# Altium schematic symbol library HW_SSB_LITE_R1.SCHLIB: 59 symbols (part 1 of 2)
Pins are listed as number, name and electrical type; pins without a type are passive.

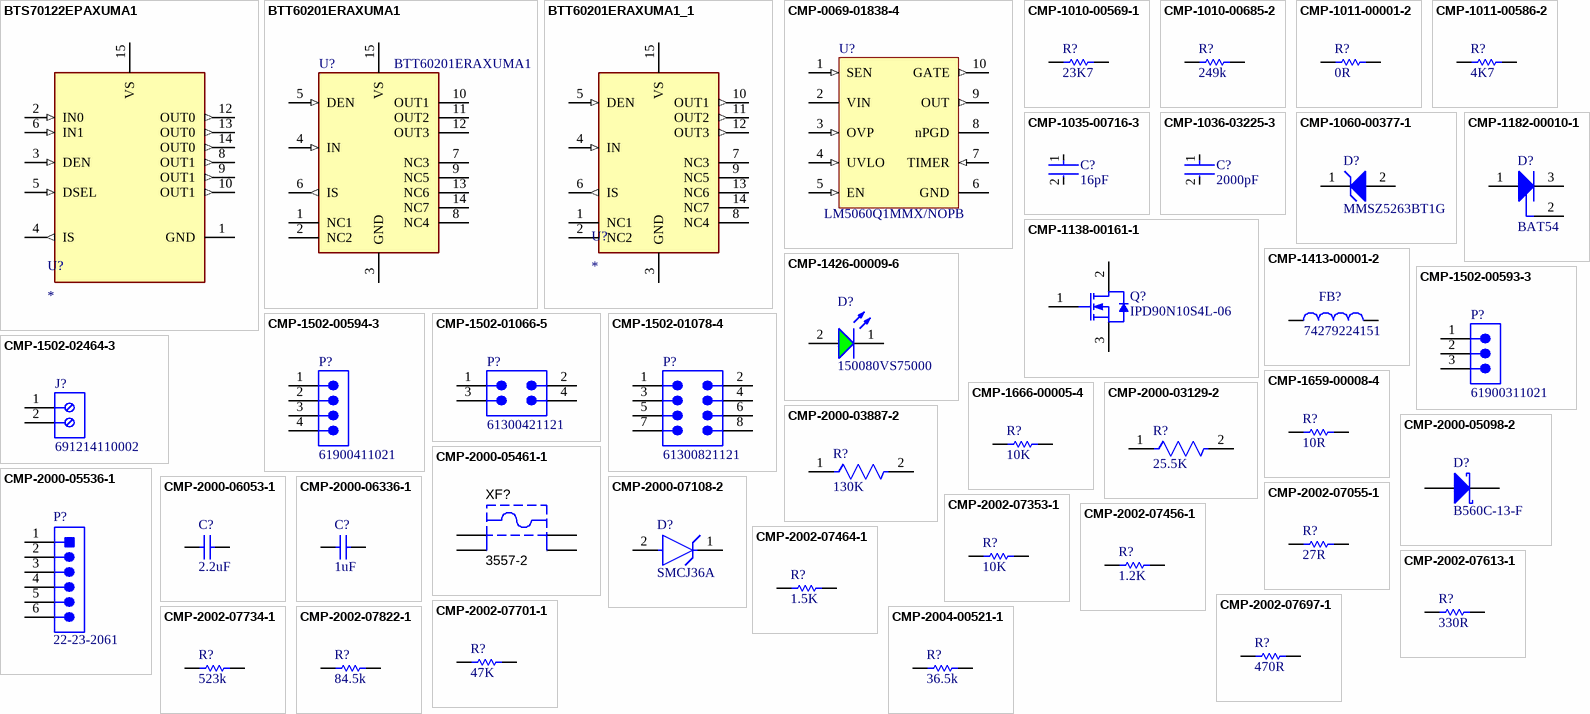
[diagram p0: symbols BTS70122EPAXUMA1 to CMP-2004-00521-1]

## BTS70122EPAXUMA1
designator U?
BTS70 Series 28 V 6 A PROFET+2 Smart High-Side Power Switch - PG-TSDSO-14; Manufacturer: Infineon; Manufacturer Part Number: BTS70122EPAXUMA1; Max Junction Temperature (Tj): 150°C; Max Output current: 6A; Max Supply Voltage: 18V; Min Supply Voltage: 6V; Nominal Supply Voltage: 28V; Number of Channels: 2; Number of Circuits: 1; Operating Supply Voltage: 13.5V; Power Dissipation: 2W; Supplier: Farnell; Supplier Part Number: BTS70122EPAXUMA1; RoHS: Compliant; Category: Power Switch ICs - Power Distribution; Stock: 2385; Pricing: 1=2,85, 10=1,86, 50=1,7, 100=1,46, 250=1,37, 500=1,2, 1000=1, 2500=0,98 (EUR); China RoHS: Compliant; Country of Origin: Malaysia; Export Control Classification Number (ECCN) Code: EAR99; Height: 1.15mm; Height - Seated (Max): 1.15mm; Harmonized Tariff Schedule (HTS) Code: 8542.39.00.60; Introduction Date: 2017-08-25; Length: 4.9mm; Lifecycle Status: Production; Max Operating Temperature: 150°C; Min Operating Temperature: -40°C; Number of Outputs: 2; Number of Terminals: 14; Output Current: 6A; Package Quantity: 3000; Packaging: Tape & Reel; Ratings: AEC-Q100; REACH SVHC: Yes; Schedule B: 8542390000; Terminal Pitch: 650µm; Width: 3.9mm; ComponentLink1URL: https://datasheet.octopart.com:443/BTS70122EPAXUMA1-Infineon-datasheet-104474240.pdf?src-supplier=ODG+(Origin+Data+Global); ComponentLink1Description: https://datasheet.octopart.com:443/BTS70122EPAXUMA1-Infineon-datasheet-104474240.pdf?src-supplier=ODG+(Origin+Data+Global); ComponentLink2URL: http://sigma.octopart.com:80/conflict_mineral_statement/Infineon-company-51.pdf?src-supplier=Compliance+Statements; ComponentLink2Description: http://sigma.octopart.com:80/conflict_mineral_statement/Infineon-company-51.pdf?src-supplier=Compliance+Statements
footprint BTS70122EPAXUMA1
pins: 1 GND (power), 2 IN0 (in), 3 DEN (in), 4 IS (out), 5 DSEL (in), 6 IN1 (in), 8 OUT1 (out), 9 OUT1 (out), 10 OUT1 (out), 12 OUT0 (out), 13 OUT0 (out), 14 OUT0 (out), 15 VS (power)

## BTT60201ERAXUMA1
designator U?
Power Switch ICs – Power Distribution; INFINEON; BTT60201ERAXUMA1; 1; 7 A; Max Junction Temperature (Tj): 150°C; Max Output current: 7A; Max Power Dissipation: 1.6W; Max Supply Current: 9mA; Max Supply Voltage: 48V; Min Supply Voltage: 5V; Number of Circuits: 1; Operating Supply Voltage: 8V; Supplier: Farnell; Supplier Part Number: BTT60201ERAXUMA1; Manufacturer: Infineon; Manufacturer Part Number: BTT60201ERAXUMA1; RoHS: Compliant; Category: Power Switch ICs - Power Distribution; Stock: 7297; Pricing: 5=4,52, 50=2,78, 100=2,42, 500=2, 1500=1,67 (EUR); Height: 1.15mm; Height - Seated (Max): 1.15mm; Length: 8.65mm; Lifecycle Status: Production; Max Operating Temperature: 150°C; Min Operating Temperature: -40°C; Number of Outputs: 1; Number of Terminals: 14; Output Current: 7A; Ratings: AEC-Q100; REACH SVHC: Yes; Schedule B: 8542390000, 8542390000|8542390000|8542390000|8542390000|8542390000; Terminal Pitch: 1.27mm; Width: 3.9mm; ComponentLink1URL: https://datasheet.octopart.com:443/BTT60201ERAXUMA1-Infineon-datasheet-180055284.pdf?src-supplier=IHS; ComponentLink1Description: https://datasheet.octopart.com:443/BTT60201ERAXUMA1-Infineon-datasheet-180055284.pdf?src-supplier=IHS; ComponentLink2URL: http://sigma.octopart.com:80/conflict_mineral_statement/Infineon-company-51.pdf?src-supplier=Compliance+Statements; ComponentLink2Description: http://sigma.octopart.com:80/conflict_mineral_statement/Infineon-company-51.pdf?src-supplier=Compliance+Statements
footprint BTT60201ERAXUMA1
pins: 1 NC1, 2 NC2, 3 GND (power), 4 IN (in), 5 DEN (in), 6 IS (out), 7 NC3, 8 NC4, 9 NC5, 10 OUT1, 11 OUT2, 12 OUT3, 13 NC6, 14 NC7, 15 VS (power)

## BTT60201ERAXUMA1_1
designator U?
Power Switch ICs – Power Distribution; INFINEON; BTT60201ERAXUMA1; 1; 7 A; Max Junction Temperature (Tj): 150°C; Max Output current: 7A; Max Power Dissipation: 1.6W; Max Supply Current: 9mA; Max Supply Voltage: 48V; Min Supply Voltage: 5V; Number of Circuits: 1; Operating Supply Voltage: 8V; Supplier: Farnell; Supplier Part Number: BTT60201ERAXUMA1; Manufacturer: Infineon; Manufacturer Part Number: BTT60201ERAXUMA1; RoHS: Compliant; Category: Power Switch ICs - Power Distribution; Stock: 7297; Pricing: 5=4,52, 50=2,78, 100=2,42, 500=2, 1500=1,67 (EUR); Height: 1.15mm; Height - Seated (Max): 1.15mm; Length: 8.65mm; Lifecycle Status: Production; Max Operating Temperature: 150°C; Min Operating Temperature: -40°C; Number of Outputs: 1; Number of Terminals: 14; Output Current: 7A; Ratings: AEC-Q100; REACH SVHC: Yes; Schedule B: 8542390000, 8542390000|8542390000|8542390000|8542390000|8542390000; Terminal Pitch: 1.27mm; Width: 3.9mm; ComponentLink1URL: https://datasheet.octopart.com:443/BTT60201ERAXUMA1-Infineon-datasheet-180055284.pdf?src-supplier=IHS; ComponentLink1Description: https://datasheet.octopart.com:443/BTT60201ERAXUMA1-Infineon-datasheet-180055284.pdf?src-supplier=IHS; ComponentLink2URL: http://sigma.octopart.com:80/conflict_mineral_statement/Infineon-company-51.pdf?src-supplier=Compliance+Statements; ComponentLink2Description: http://sigma.octopart.com:80/conflict_mineral_statement/Infineon-company-51.pdf?src-supplier=Compliance+Statements
footprint BTT60201ERAXUMA1
pins: 1 NC1, 2 NC2, 3 GND (power), 4 IN (in), 5 DEN (in), 6 IS (out), 7 NC3, 8 NC4, 9 NC5, 10 OUT1 (out), 11 OUT2 (out), 12 OUT3 (out), 13 NC6, 14 NC7, 15 VS (power)

## CMP-0069-01838-4
designator U?, comment LM5060Q1MMX/NOPB
High-Side Protection Controller with Low Quiescent Current, 10-pin MSOP, Pb-Free; Manufacturer: Texas Instruments; PackageTopMarking: ZXTT*SZAB; High-Reliability: Y; CompType: Switcher; PackageDescription: Mini-SO, Molded, .118 x .118 x .034in Body, 10 Lead, .0197in Pitch; PowerWise: Y; PinCount: 10; Code_JEDEC: MO-187-BA; ComponentLink1URL: http://www.ti.com/general/docs/lit/getliterature.tsp?genericPartNumber=LM5060-Q1&fileType=pdf; ComponentLink1Description: Datasheet URL; PackageReference: DGS0010A; RoHS: Y; PartNumber: LM5060Q1MMX/NOPB
footprint DGS0010A_M (SOP, 10-Leads, Body 3.1x3.1mm, Pitch 0.5mm, IPC Low Density)
footprint DGS0010A_N (SOP, 10-Leads, Body 3.1x3.1mm, Pitch 0.5mm, IPC Medium Density)
footprint DGS0010A_L (SOP, 10-Leads, Body 3.1x3.1mm, Pitch 0.5mm, IPC High Density)
pins: 1 SEN (in), 2 VIN (power), 3 OVP (in), 4 UVLO (in), 5 EN (in), 6 GND (power), 7 TIMER (in), 8 nPGD (oc), 9 OUT (out), 10 GATE (out)

## CMP-1010-00569-1
designator R?, comment 23K7
23K7 0.05W 1% 0201 (0603 Metric)  SMD; Case-Metric: 0603; Case-EIA: 0201; Value: 23700.00 Ohm; Power: 0.05 W; Tolerance: 1 %; Technology: SMT
footprint RESC0201(0603)_M (Chip Resistor, Body 0.6x0.3mm, IPC Low Density)
footprint RESC0201(0603)_N (Chip Resistor, Body 0.6x0.3mm, IPC Medium Density)
footprint RESC0201(0603)_L (Chip Resistor, Body 0.6x0.3mm, IPC High Density)
pins: 1, 2
1 alternate drawing of the same symbol

## CMP-1010-00685-2
designator R?, comment 249k
Res Thick Film 0603 2.2K Ohm 1% 0.1W(1/10W) ±100ppm/C SMD AutomoTEXASve T/R; Part Number: CRCW0201249KFKED; Manufacturer: Vishay Dale
footprint RESC0603X28X15LL05T05 (Chip Resistor, 2-Leads, Body 0.60x0.30mm, IPC High Density)
footprint RESC0603X28X15ML05T05 (Chip Resistor, 2-Leads, Body 0.60x0.30mm, IPC Low Density)
footprint RESC0603X28X15NL05T05 (Chip Resistor, 2-Leads, Body 0.60x0.30mm, IPC Medium Density)
pins: 1, 2
1 alternate drawing of the same symbol

## CMP-1011-00001-2
designator R?, comment 0R
Manufacturer: Yageo / Phycomp; Part Number: RC0402JR-070RL
footprint RESC1005X40X25NL05T10 (Chip Resistor, 2-Leads, Body 1.00x0.50mm, IPC Medium Density)
footprint RESC1005X40X25ML05T10 (Chip Resistor, 2-Leads, Body 1.00x0.50mm, IPC Low Density)
footprint RESC1005X40X25LL05T10 (Chip Resistor, 2-Leads, Body 1.00x0.50mm, IPC High Density)
pins: 1, 2
1 alternate drawing of the same symbol

## CMP-1011-00586-2
designator R?, comment 4K7
Manufacturer: Yageo / Phycomp; Part Number: RC0402FR-074K7L
footprint RESC1005X40X25NL05T10 (Chip Resistor, 2-Leads, Body 1.00x0.50mm, IPC Medium Density)
footprint RESC1005X40X25LL05T10 (Chip Resistor, 2-Leads, Body 1.00x0.50mm, IPC High Density)
footprint RESC1005X40X25ML05T10 (Chip Resistor, 2-Leads, Body 1.00x0.50mm, IPC Low Density)
pins: 1, 2
1 alternate drawing of the same symbol

## CMP-1035-00716-3
designator C?, comment 16pF
CAP CER 16PF 50V 5% NP0 0603; Manufacturer Part Number: C0603C160J5GACTU; Manufacturer: KEMET; Automotive Grade: Grade 1; Material: Ceramic; Temperature Coefficient: 30ppm/°C; Tolerance: 0.05; Temperature Characteristic: C0G; Octopart: https://octopart.com/c0603c160j5gactu-kemet-9143816; ComponentLink2URL: https://api.kemet.com/component-edge/download/datasheet/C0603C100J5GACAUTO.pdf; Category: Cap; Mouser Description: Multilayer Ceramic Capacitors MLCC - SMD/SMT 50volts 16pF C0G 5%; Device Class L1: Passive Components; Capacitance: 16 pF; Voltage Rating: 50 V; Temperature Range Low: -55°C; Automotive: Yes; Device Class L3: Ceramic Capacitors; Package: C0603C-CF; Temperature Range High: +125°C; Digikey Description: CAP CER 16PF 50V 5% NP0 0603; Value: 16 pF; Lead Free: Yes; Height: 0.87mm; Device Class L2: Capacitors; Temperature: -55°C to +125°C; ComponentLink2Description: Datasheet; RoHS: TRUE
footprint FP-C0603C-CF-MFG
footprint FP-C0603C-CF-IPC_C
footprint FP-C0603C-CF-IPC_B
footprint FP-C0603C-CF-IPC_A
pins: 1, 2

## CMP-1036-03225-3
designator C?, comment 2000pF
CAP CER 2000PF 25V 5% NP0 0805; Manufacturer Part Number: C0805C202J3GACTU; Manufacturer: KEMET; Value: 2,000 pF; Material: Ceramic; Temperature Characteristic: C0G; Temperature Coefficient: 30ppm/°C; Tolerance: 0.05; Package: C0805C-DN; Category: Cap; ComponentLink2URL: https://content.kemet.com/datasheets/KEM_C1003_C0G_SMD.pdf; ComponentLink2Description: Datasheet; Device Class L3: Ceramic Capacitors; Device Class L1: Passive Components; Octopart: https://octopart.com/c0805c202j3gactu-kemet-11998870; Voltage Rating: 25 V; Height: 0.88mm; Ipc Land Pattern Name: CAPC200125X78; Temperature: -55°C to +125°C; Capacitance: 2,000 pF; Lead Free: Yes; Automotive: No; Temperature Range High: +125°C; Temperature Range Low: -55°C; Mouser Description: Cap Ceramic 0.002uF 25V C0G 5% SMD 0805 125°C Paper T/R; RoHS: TRUE; Digikey Description: CAP CER 2000PF 25V 5% NP0 0805; Device Class L2: Capacitors
footprint FP-C0805C-DN-MFG
footprint FP-C0805C-DN-IPC_C
footprint FP-C0805C-DN-IPC_B
footprint FP-C0805C-DN-IPC_A
pins: 1, 2

## CMP-1060-00377-1
designator D?, comment MMSZ5263BT1G
Zener Voltage Regulator, 500 mW, 2-Pin SOD-123, Pb-Free, Tape and Reel; Manufacturer: On Semiconductor; VZ Typ (V): 56; P Max (W): 0.5; DatasheetVersion: Rev. 12; PackageReference: SOD-123-2-425-04; Mounting Technology: Surface Mount; ComponentLink3URL: http://www.onsemi.com/pub_link/Collateral/425-04.PDF; ComponentLink1Description: Manufacturer URL; ComponentLink3Description: Package Specification; PartNumber: MMSZ5263BT1G; PackageDescription: 2-Pin SOD, Body 1.6 x 2.69 mm; Packing: Tape and Reel; ComponentLink1URL: http://www.onsemi.com/; RoHS: Pb-Free; ComponentLink2Description: Datasheet; ComponentLink2URL: http://www.onsemi.com/pub_link/Collateral/MMSZ5221BT1-D.PDF; PackageVersion: Rev. G, 10/2009
footprint ONSC-SOD-123-2-425-04_V (SOD, 2-Leads, Body 2.69x1.6mm)
pins: 1 K, 2 A

## CMP-1138-00161-1
designator Q?, comment IPD90N10S4L-06
OptiMOS-T2 Power-Transistor, 100 V VDS, 90 A ID, PG-TO252-3-313, Reel, Green; Manufacturer: Infineon; RthJC (max): 1.1 K/W; VGS(th) (min): 1.1 V; IDpuls (max): 360 A; VDS (max): 100 V; RDS (on) (max) (@4.5V): 8.1 mOhm; ID (max): 90 A; Ptot (max): 136 W; RDS (on) (max) (@10V): 6.6 mOhm; Green: TRUE; VGS(th) (max): 2.1 V; QG: 75 nC; Halogen-free: TRUE; PackageVersion: Oct-10; Mounting Technology: Surface Mount; ComponentLink1Description: Manufacturer URL; ComponentLink2Description: Datasheet; ComponentLink1URL: http://www.infineon.com/; PackageReference: PG-TO252-3-313; Technology: OptiMOS-T2; ComponentLink3Description: Package Specification; Packing: Reel; DatasheetVersion: Rev. 1.0; ComponentLink3URL: http://www.infineon.com/dgdl/PG-TO252-3-313-Package_Overview.pdf?folderId=db3a30432b57a660012b81890ade72d2&fileId=db3a30432b57a660012b8193af2872eb; PackageDescription: 3-Pin Plastic (Green) Transistor Single Outline Package, 6.5 x 6.12 mm Body, 2.28 mm Pitch; ComponentLink2URL: http://www.infineon.com/dgdl/IPD90N10S4L-06_DS_1_0.pdf?folderId=db3a3043156fd5730115c7d50620107c&fileId=db3a3043372d5cc80137500063630512&location=en.Products.Automotive_ICs.Automotive_MOSFETs.Single__N-Channel_100V_MOSFETs.DATASHEET.IPD90N10S4L-06_DS_1_0.p; PartNumber: IPD90N10S4L-06
footprint INF-PG-TO252-3-313_M (DPAK, 3-Leads, Body 6.5x6.12mm, Pitch 2.28mm, IPC Low Density)
footprint INF-PG-TO252-3-313_L (DPAK, 3-Leads, Body 6.5x6.12mm, Pitch 2.28mm, IPC High Density)
footprint INF-PG-TO252-3-313_N (DPAK, 3-Leads, Body 6.5x6.12mm, Pitch 2.28mm, IPC Medium Density)
pins: 1 GATE, 2 DRAIN, 3 SOURCE

## CMP-1182-00010-1
designator D?, comment BAT54
Silicon Schottky Diode, SOT23, Reel, Green; Manufacturer: Infineon; VF (max): 800Â mV; Configuration: Single; IF (max): 200Â mA; CT (max): 10Â pF; Green: TRUE; VR (max): 30Â V; PartNumber: BAT54; ComponentLink2URL: http://www.infineon.com/dgdl/bat54series.pdf?folderId=db3a30431400ef68011425f1ca2505e3&fileId=db3a304314dca3890115190b74210ea6; ComponentLink3Description: Package Specification; PackageVersion: Apr-08; PackageDescription: 3-Pin Small Outline Transistor Package, 1.3 x 2.9 mm Body, 0.95 mm Pitch; ComponentLink1Description: Manufacturer URL; ComponentLink1URL: http://www.infineon.com/; Mounting Technology: Surface Mount; Packing: Reel; ComponentLink2Description: Datasheet; PackageReference: SOT23; ComponentLink3URL: http://www.infineon.com/dgdl/SOT23-Package_Overview.pdf?folderId=db3a30431936bc4b0119532290053c66&fileId=db3a30431936bc4b0119533468123c85
footprint INF-SOT23_L (SOT23, 3-Leads, Body 2.9x1.3 mm, Pitch 0.95 mm, IPC High Density)
footprint INF-SOT23_M (SOT23, 3-Leads, Body 2.9x1.3 mm, Pitch 0.95 mm, IPC Low Density)
footprint INF-SOT23_N (SOT23, 3-Leads, Body 2.9x1.3 mm, Pitch 0.95 mm, IPC Medium Density)
pins: 1 A, 2 NC, 3 K

## CMP-1413-00001-2
designator FB?, comment 74279224151
NexarPartId: 21273886; Current Rating: 5A; Tolerance: 25%; Number of Lines: 1; Frequency: 700MHz; DC Resistance (DCR): 7mΩ; Test Frequency: 100MHz; Material: Ferrite, Steel; Impedance: 150Ω; Max Operating Temperature: 125°C; Length: 5.6mm; Width: 5.1mm; Height: 1.8mm; Max DC Current: 5A; Case Code (Metric): 5650; RoHS: Compliant; Termination: SMD/SMT; Packaging: Digi-Reel®; Depth: 5.08mm; Max Current Rating: 5A; REACH SVHC: Unknown; Case Code (Imperial): 2220; Min Operating Temperature: -55°C; Case/Package: 2220; Mount: Surface Mount
footprint WE-MPSB_2220_L5.6W5.1H1.8 (Ferrite Beads Multi-Layer Power 100Ohm 25% 100MHz 7A 0.005Ohm DCR 2220 Automotive T/R)
pins: 1, 2

## CMP-1426-00009-6
designator D?, comment 150080VS75000
WL-SMCW SMT Mono-Color Chip LED Waterclear; Max Junction Temperature (Tj): 95°C; Max Reverse Voltage (DC): 5V; Luminous Intensity: 40mcd; Color: Green; Peak Wavelength: 572nm; Wavelength: 570nm; Viewing Angle: 140°; Power Dissipation: 72mW; Forward Current: 100mA; Test Current: 20mA; Forward Voltage: 2V; Lens Style: Clear, Rectangular; Reverse Voltage: 5V; Length: 2mm; RoHS: Compliant; Min Operating Temperature: -40°C; REACH SVHC: Unknown; Packaging: Tape and Reel; Case/Package: 0805; Max Operating Temperature: 85°C; Case Code (Metric): 2012; Width: 1.25mm; Dominant Wavelength: 570nm; Mount: Surface Mount; Case Code (Imperial): 0805; Height: 700µm
footprint WL-SMCW_0805_150080xx75000
pins: 1 K, 2 A

## CMP-1502-00593-3
designator P?, comment 61900311021
WR-WTB 2.54mm Male 3Pin Left Angled Header Bottom Locking; Current Rating: 3A; Insulation: Insulated; Insulation Resistance: 1GΩ; Operating Supply Voltage: 250V; Number of Positions: 3; Connector Type: Male Pin; Contact Resistance: 20mΩ; Contact Mating Length: 7.62mm; RoHS: Compliant; Housing Material: Nylon; Termination: Through Hole; Height: 3.3mm; Min Operating Temperature: -40°C; Lead Pitch: 2.54mm; Number of Pins: 3; Pitch: 2.54mm; Packaging: Bulk; Flammability Rating: UL94 V-0; Max Operating Temperature: 105°C; Width: 7.66mm; Gender: Male; Length: 7.62mm; Voltage Rating: 250V; Fastening Type: Friction; Number of Rows: 1; Color: Beige; Mount: Through Hole; Number of Contacts: 3; Contact Gender: Male; Contact Plating: Tin; Contact Material: Copper
footprint 61900311021
pins: 1, 2, 3

## CMP-1502-00594-3
designator P?, comment 61900411021
Wr-wtb Series, 2.54MM Pitch 4 Way 1 Row Right Angle Pcb Header, Through Hole; Contact Resistance: 20mΩ; Number of Positions: 4; Insulation: Insulated; Connector Type: Male Pin; Voltage Rating: 250V; Gender: Male; Insulation Resistance: 1GΩ; Current Rating: 3A; Number of Rows: 1; Flammability Rating: UL94 V-0; Pitch: 2.54mm; Housing Material: Nylon; Height: 3.3mm; Length: 10.16mm; Contact Gender: Male; Color: Beige; Contact Mating Length: 7.62mm; Contact Material: Copper; Mount: Through Hole; Number of Pins: 4; Number of Contacts: 4; Fastening Type: Friction; Contact Plating: Tin; Packaging: Bulk; RoHS: Compliant; Lead Pitch: 2.54mm; Min Operating Temperature: -40°C; Termination: Through Hole; Width: 10.2mm; Max Operating Temperature: 105°C; Operating Supply Voltage: 250V
footprint 61900411021
pins: 1, 2, 3, 4

## CMP-1502-01066-5
designator P?, comment 61300421121
THT Vertical Pin Header WR-PHD, Pitch 2.54 mm, Dual Row, 4 pins; Row Spacing: 2.54mm; Gender: Male; Number of Contacts: 4; Contact Resistance: 20mΩ; Connector Type: Male Pin; Voltage Rating: 250V; Current Rating: 3A; Height: 8.89mm; Termination: Solder; RoHS: Compliant; Color: Black; Max Operating Temperature: 105°C; Min Operating Temperature: -40°C; Contact Material: Gold; Pitch: 2.54mm; Lead Pitch: 2.54mm; Contact Plating: Gold; Number of Pins: 4; Mount: Through Hole; Number of Rows: 2; Number of Positions: 4; Orientation: Vertical; Operating Supply Voltage: 250V; Lead Free: Lead Free; Contact Mating Length: 5.9944mm; Packaging: Bulk
footprint 61300421121 (THT Vertical Pin Header WR-PHD, Pitch 2.54 mm, Dual Row, 4 pins)
pins: 1, 2, 3, 4

## CMP-1502-01078-4
designator P?, comment 61300821121
THT Vertical Pin Header WR-PHD, Pitch 2.54 mm, Dual Row, 8 pins; Number of Contacts: 8; Gender: Male; Connector Type: Male Pin; Current Rating: 3A; Row Spacing: 2.54mm; Contact Resistance: 20mΩ; Voltage Rating: 250V; Number of Pins: 8; Lead Pitch: 2.54mm; Mount: Through Hole; Lead Free: Lead Free; Contact Material: Gold; Number of Positions: 8; Min Operating Temperature: -40°C; RoHS: Compliant; Termination: Solder; Packaging: Bulk; Max Operating Temperature: 105°C; Operating Supply Voltage: 250V; Contact Mating Length: 5.9944mm; Height: 8.89mm; Color: Black; Pitch: 2.54mm; Number of Rows: 2; Orientation: Vertical; Contact Plating: Gold
footprint 61300821121 (Header, 2.54mm Pitch, THT, Dual Pin, 8 Pins, 3A, 500VAC, WR-PHD)
pins: 1, 2, 3, 4, 5, 6, 7, 8

## CMP-1502-02464-3
designator J?, comment 691214110002
2141 Series 3.5MM Pitch Straight, Pcb Terminal Block, Through Hole, 2 Way; Plating: Brass, Steel; Wire Gauge (Min): 16AWG; Number of Contacts: 2; Current: 10A; Stripping Length: -6mm; Voltage Rating: 300V; Pitch: 3.5052mm; Wire Gauge (Max): 24AWG; Number of Levels: 1; Lead Pitch: 3.5mm; Width: 7.9mm; Packaging: Box; RoHS: Compliant; Number of Rows: 1; Min Operating Temperature: -40°C; Mount: Through Hole; Number of Pins: 2; Contact Plating: Brass, Tin; Housing Material: Nylon; Current Rating: 10A; Termination: Screw; Color: Blue, Green; Number of Positions Per Level: 2; Height: 8.7mm; Voltage: 300V; Max Operating Temperature: 105°C; Wire/Cable Gauge: 24AWG; Length: 7.4mm; Contact Material: Tin
footprint 691214110002
pins: 1, 2

## CMP-1659-00008-4
designator R?, comment 10R
Chip Resistor, 10 Ohm, +/- 1%, 0.1 W, -55 to 155 degC, 0603 (1608 Metric), RoHS, Tape and Reel; Manufacturer: Yageo; Voltage Rating: 50 V; PackageReference: 0603; ComponentLink3Description: Package Specification; Packaging: Tape and Reel; Max Operating Temperature: 155 degC; ComponentLink3URL: http://www.farnell.com/datasheets/443971.pdf; PackageDescription: 2-Pin Surface Mount Device, Body 1.6 x 0.8 mm; ComponentLink1URL: http://www.yageo.com/; Pins: 2; REACH SVHC: No SVHC; RoHSCompliant: true; ComponentLink2URL: http://www.yageo.com/documents/recent/PYu-RC_Group_51_RoHS_L_04.pdf; DatasheetVersion: Rev. 4, 02/2016; Mount: Surface Mount; Package Quantity: 200; Min Operating Temperature: -55 degC; Height: 0.45 mm; Mounting Technology: Surface Mount; ComponentLink1Description: Manufacturer URL; ComponentLink2Description: Datasheet; Length: 1.6 mm
footprint RESC1608X55X25NL10T15 (Chip Resistor, 2-Leads, Body 1.70x0.90mm, IPC Medium Density)
footprint RESC1608X55X25LL10T15 (Chip Resistor, 2-Leads, Body 1.70x0.90mm, IPC High Density)
footprint RESC1608X55X25ML10T15 (Chip Resistor, 2-Leads, Body 1.70x0.90mm, IPC Low Density)
pins: 1, 2

## CMP-1666-00005-4
designator R?, comment 10K
Chip Resistor, 10 KOhm, +/- 1%, 100 mW, -55 to 155 degC, 0603 (1608 Metric), RoHS, Tape and Reel; Manufacturer: Vishay Semiconductor; Voltage Rating: 75 V; Max Operating Temperature: 155 degC; PackageDescription: 2-Pin Surface Mount Device, Body 1.575 x 0.85 mm; ComponentLink1Description: Manufacturer URL; RoHSCompliant: true; PackageReference: 0603; REACH SVHC: Unknown; Length: 1.55 mm; DatasheetVersion: 06/2012; Packaging: Tape and Reel; Min Operating Temperature: -55 degC; Mounting Technology: Surface Mount; ComponentLink2URL: https://datasheet.ciiva.com/11809/0900766b80d98afc-11809037.pdf; Height: 0.45 mm; ComponentLink2Description: Datasheet; Package Quantity: 5000; ComponentLink1URL: http://www.vishay.com/
footprint RESC1609X50X30NL8T20 (Chip Resistor, 2-Leads, Body 1.65x0.95mm, IPC Medium Density)
footprint RESC1609X50X30ML8T20 (Chip Resistor, 2-Leads, Body 1.65x0.95mm, IPC Low Density)
footprint RESC1609X50X30LL8T20 (Chip Resistor, 2-Leads, Body 1.65x0.95mm, IPC High Density)
pins: 1, 2

## CMP-2000-03129-2
designator R?, comment 25.5K
RES Thick Film, 25.5kΩ, 1%, 0.1W, 100ppm/°C, 0603; Power Rating: 100mW; Voltage Rating (DC): 75V; Resistance: 25.5kR; Termination: SMD/SMT; Temperature Coefficient: 100ppm/°C; Lead Free: Lead Free; Features: Automotive AEC-Q200; Case/Package: 0603; Width: 0.033inch; Min Operating Temperature: -55°C; Number of Pins: 2; Package Quantity: 10; Case Code (Metric): 1608; Military Standard: Not; Case Code (Imperial): 0603; Length: 1.55mm; Composition: Thick Film; Max Operating Temperature: 155°C; Height: 0.45mm; Number of Terminations: 2; Packaging: Tape and Reel; Radiation Hardening: No; Depth: 0.85mm; Tolerance: 1%; Contact Plating: Tin; Working Voltage: 75V; Weight: 7.1E-05oz; Max Power Dissipation: 100mW; Voltage Rating: 75V
footprint FP-CRCW0603-e3-IPC_A
footprint FP-CRCW0603-e3-MFG
footprint FP-CRCW0603-e3-IPC_B
footprint FP-CRCW0603-e3-IPC_C
pins: 1, 2

## CMP-2000-03887-2
designator R?, comment 130K
RES Thick Film, 130kΩ, 1%, 0.1W, 100ppm/°C, 0603; Resistance: 130kR; Power Rating: 100mW; Voltage Rating: 75V; Width: 0.033inch; Lead Free: Lead Free; Case Code (Imperial): 0603; Radiation Hardening: No; Termination: SMD/SMT; Tolerance: 1%; Packaging: Tape and Reel; Length: 1.55mm; Height: 0.45mm; Composition: Thick Film; Max Power Dissipation: 100mW; Max Operating Temperature: 155°C; Temperature Coefficient: 100ppm/°C; Voltage Rating (DC): 75V; Case Code (Metric): 1608; Case/Package: 0603; Military Standard: Not; Features: Automotive AEC-Q200; Number of Pins: 2; Weight: 7.1E-05oz; Min Operating Temperature: -55°C; Depth: 0.85mm; Number of Terminations: 2; Contact Plating: Tin; Package Quantity: 10
footprint FP-CRCW0603-e3-IPC_C
footprint FP-CRCW0603-e3-MFG
footprint FP-CRCW0603-e3-IPC_A
footprint FP-CRCW0603-e3-IPC_B
pins: 1, 2

## CMP-2000-05098-2
designator D?, comment B560C-13-F
Schottky Barrier Rectifier, 5 A, 60 V, -55 to 125 degC, 2-Pin SMD, RoHS, Tape and Reel; Ir - Reverse Current: 500uA; Configuration: Single; Ifsm - Forward Surge Current: 100A; Vrrm - Repetitive Reverse Voltage: 60V; Brand: DiodesIncorporated; Vf - Forward Voltage: 0.7V; If - Forward Current: 5A; Unit Weight: 0.007408oz; Type: SchottkyBarrierRectifier; Package / Case: SMC; Manufacturer URL: http://www.diodes.com/; Datasheet URL: https://datasheet.ciiva.com/27052/1538961-27052355.pdf; Factory Pack Quantity: 3000; Height: 2.5mm; Width: 6.22mm; Product Category: SchottkyDiodes&Rectifiers; Minimum Operating Temperature: -55C; Manufacturer: DiodesIncorporated; Datasheet Version: Rev. 7-2, 06/2007; Product: SchottkyDiodes; Maximum Operating Temperature: +125C; Operating Temperature Range: -55Cto+125C; Technology: Si; Length: 7.11mm; RoHS: True; Packaging: Reel; Termination Style: SMD/SMT; Series: B560; Mounting Style: SMD/SMT
footprint DIOD-B5X0C-2_M (Molded Diode, 2-Leads, Body 7.11x6.22mm, IPC Low Density)
footprint DIOD-B5X0C-2_N (Molded Diode, 2-Leads, Body 7.11x6.22mm, IPC Medium Density)
footprint DIOD-B5X0C-2_L (Molded Diode, 2-Leads, Body 7.11x6.22mm, IPC High Density)
pins: 1 K, 2 A

## CMP-2000-05461-1
designator XF?, comment 3557-2
FUSE HOLDER, PCB MOUNT, 500VAC, 20A, ROHS; Manufacturer: Keystone-Electronics; Number of Circuits: 1; Voltage: 500V; Fuseholder Type: Block; Fuse Type: Blade; Fuse Size: 0.43"Lx0.15"Wx0.64"H(10.92mmx3.81mmx16.25mm); For Use With/Related Products: ATC,ATO257,MINI897; Current Rating: 30A; Datasheet URL: http://datasheet.octopart.com/3557-2-Keystone-datasheet-15715937.pdf; Orientation: Vertical; Family: Fuseholders; Datasheet Version: Apr-13; Contact Finish: TinNickel; Mounting Type: PCB; Series: -; Category: CircuitProtection; Termination Style: PCPin; Contact Material: Brass; Manufacturer URL: http://www.keyelco.com/
footprint KSTN-3557-2 (Fuse Holder, PCB Mount, Thru-Hole, Body 19.8x6.8mm, Height 7.4mm)
pins: 1, 2, 3, 4

## CMP-2000-05536-1
designator P?, comment 22-23-2061
Male Header, Pitch 2.54 mm, 1 x 6 Position, Height 10.67 mm, Tail Length 3.56 mm, 0 to 70 degC, RoHS, Bulk; Manufacturer: Molex; Pitch: 2.54mm; Mounting Angle: Vertical; Current Rating: 4A; Number of Positions / Contacts: 6; Voltage Rating: 250V; Packaging: Bulk; Package Description: Male Header, Pitch 2.54 mm, 1 x 6 Position, Height 10.67 mm, Tail Length 3.56 mm; Number of Rows: 1; Type: PinStrip; Contact Material: Brass; Product Category: .100K.K.Connectors; Factory Pack Quantity: 1000; Mounting Style: ThroughHole; RoHS: Details; Contact Plating: Tin; Housing Material: Nylon; Mounting Technology: ThroughHole; Termination Style: ThroughHole; Tradename: KK; Number of Positions: 6; Brand: Molex; Product Type: Headers; Series: 6373; Datasheet URL: https://datasheet.ciiva.com/19460/232303-19460895.pdf; Package Reference: 22-23-2061; Datasheet Version: Rev. P, 09/2001; Manufacturer URL: http://www.molex.com/
footprint MOLX-22-23-2061_V (THD, 6-Leads, Body 15.24x6.35mm, Pitch 2.54mm)
pins: 1, 2, 3, 4, 5, 6

## CMP-2000-06053-1
designator C?, comment 2.2uF
Chip Capacitor, 2.2 uF, +/- 10%, -55 to 125 degC, 1210 (3225 Metric), RoHS, Tape and Reel; PCN Part Number: MLCCPartNumberChange30/Nov/2012; Manufacturer: TDK; Capacitance: 2.2µF; Catalog Drawings: CSERIES_1210_2.5; Product Training Modules: SEAT,CCV,andTVCLDesignToolsGuidetoReplacinganElectrolyticCapacitorwithanMLCC; Other Names: 445-4497-6; Voltage - Rated: 100V; Temperature Coefficient: X7R; Featured Product: C-SeriesMidVoltageMLCCs; Online Catalog: CSeries,MidVoltage; Ratings: -; Mounting Technology: SurfaceMount; Height - Seated (Max): -; Applications: GeneralPurpose; Packaging: Digi-Reel®; Mounting Type: SurfaceMount,MLCC; Lead Spacing: -; Thickness (Max): 0.098"(2.50mm); Package Reference: 1210 (3225 Metric); Manufacturer URL: http://www.tdk.com/; Size / Dimension: 0.126"Lx0.098"W(3.20mmx2.50mm); Operating Temperature: -55°C~125°C; Datasheet URL: https://datasheet.ciiva.com/15192/getdatasheetpartid-725361-15192330.pdf; RoHS Information: RoHSCertificate-MLCC; Lead Style: -; Standard Package: 1; Family: CeramicCapacitors; Datasheet Version: 10/2014; Category: Capacitors; Tolerance: ±10%; Features: -; Series: C; Package Description: 2-Pin Surface Mount Device, Body 3.2 x 2.5 mm; Package / Case: 1210(3225Metric)
footprint CAPC3225X250X20LL40 (Chip Capacitor, 2-Leads, Body 3.60x2.80mm, IPC High Density)
footprint CAPC3225X250X20ML40 (Chip Capacitor, 2-Leads, Body 3.60x2.80mm, IPC Low Density)
footprint CAPC3225X250X20NL40 (Chip Capacitor, 2-Leads, Body 3.60x2.80mm, IPC Medium Density)
pins: 1, 2

## CMP-2000-06336-1
designator C?, comment 1uF
Chip Capacitor, 1 uF, +/- 10%, 10 V, -55 to 85 degC, 0603 (1608 Metric), RoHS, Tape and Reel; Manufacturer: Murata; Dielectric: X5R; Voltage Rating: 10V; Case Height: 0.8mm; Temperature Coefficient / Code: +/-15%; Type: GeneralPurposeMLCC; Brand: MurataElectronics; Case Length: 1.6mm; Capacitance - nF: 1000nF; Package Description: 2-Pin Surface Mount Device, Body 1.6 x 0.8 mm; Maximum Operating Temperature: +85C; Minimum Operating Temperature: -55C; Mounting Technology: SurfaceMount; RoHS: Details; Package Reference: 0603; Product: GeneralTypeMLCCs; Packaging: Reel; Case Code - mm: 1608; Manufacturer URL: http://www.murata.com/; Dimensions: 0.8mmWx1.6mmLx0.8mmH; Factory Pack Quantity: 4000; Case Code - in: 0603; Tolerance: 10%; Product Category: MultilayerCeramicCapacitorsMLCC-SMD/SMT; Capacitance: 1uF; Series: GRM; Datasheet Version: 02/2016; Case Width: 0.8mm; Operating Temperature Range: -55Cto+85C; Datasheet URL: http://search.murata.co.jp/Ceramy/image/img/A01X/G101/ENG/GRM188R61A105KA61-01.pdf; Package / Case: 0603(1608metric); Termination Style: SMD/SMT; Voltage Rating DC: 10V
footprint CAPC1608X90X35LL10T15 (Chip Capacitor, 2-Leads, Body 1.7x0.9mm, IPC High Density)
footprint CAPC1608X90X35ML10T15 (Chip Capacitor, 2-Leads, Body 1.7x0.9mm, IPC Low Density)
footprint CAPC1608X90X35NL10T15 (Chip Capacitor, 2-Leads, Body 1.7x0.9mm, IPC Medium Density)
pins: 1, 2

## CMP-2000-07108-2
designator D?, comment SMCJ36A
TVS DIODE 36V 58.1V DO214AB; Max Reverse Leakage Current: 1uA; Max Surge Current: 25.9A; Min Breakdown Voltage: 40V; Peak Pulse Power: 1.5kW; Polarity: Unidirectional; Number of Elements: 1; Max Power Dissipation: 6.5W; Max Breakdown Voltage: 44.2V; Power Line Protection: No; Test Current: 1mA; Element Configuration: Single; Case/Package: SMC; Peak Pulse Current: 25.9A; Length: 7.11mm; Height: 2.417mm; Power Dissipation: 1.5kW; Max Operating Temperature: 150°C; Direction: Unidirectional; Min Operating Temperature: -65°C; Operating Supply Voltage: 36V; Breakdown Voltage: 40V; Reverse Standoff Voltage: 36V; REACH SVHC: No SVHC; Lead Free: Lead Free; Voltage Rating (DC): 36V; Number of Channels: 1; Number of Unidirectional Channels: 1; Mount: Surface Mount; Clamping Voltage: 58.1V; Number of Pins: 2; Composition: Zener; Termination: SMD/SMT; Reverse Breakdown Voltage: 40V; Leakage Current: 1uA; Width: 6.22mm; Radiation Hardening: No; Packaging: Tape and Reel; Package Quantity: 3000
footprint FP-SMCJ-MFG
pins: 1 C, 2 A

## CMP-2002-07055-1
designator R?, comment 27R
Part Number: RC0402FR-0727RL; Manufacturer: Yageo / Phycomp
footprint RESC1005X40X25LL05T10 (Chip Resistor, 2-Leads, Body 1.00x0.50mm, IPC High Density)
footprint RESC1005X40X25NL05T10 (Chip Resistor, 2-Leads, Body 1.00x0.50mm, IPC Medium Density)
footprint RESC1005X40X25ML05T10 (Chip Resistor, 2-Leads, Body 1.00x0.50mm, IPC Low Density)
pins: 1, 2
1 alternate drawing of the same symbol

## CMP-2002-07353-1
designator R?, comment 10K
Part Number: RC0402FR-0710KL; Manufacturer: Yageo / Phycomp
footprint RESC1005X40X25LL05T10 (Chip Resistor, 2-Leads, Body 1.00x0.50mm, IPC High Density)
footprint RESC1005X40X25ML05T10 (Chip Resistor, 2-Leads, Body 1.00x0.50mm, IPC Low Density)
footprint RESC1005X40X25NL05T10 (Chip Resistor, 2-Leads, Body 1.00x0.50mm, IPC Medium Density)
pins: 1, 2
1 alternate drawing of the same symbol

## CMP-2002-07456-1
designator R?, comment 1.2K
Part Number: RC0402FR-071K2L; Manufacturer: Yageo / Phycomp
footprint RESC1005X40X25ML05T10 (Chip Resistor, 2-Leads, Body 1.00x0.50mm, IPC Low Density)
footprint RESC1005X40X25LL05T10 (Chip Resistor, 2-Leads, Body 1.00x0.50mm, IPC High Density)
footprint RESC1005X40X25NL05T10 (Chip Resistor, 2-Leads, Body 1.00x0.50mm, IPC Medium Density)
pins: 1, 2
1 alternate drawing of the same symbol

## CMP-2002-07464-1
designator R?, comment 1.5K
Manufacturer: Yageo / Phycomp; Part Number: RC0402FR-071K5L
footprint RESC1005X40X25ML05T10 (Chip Resistor, 2-Leads, Body 1.00x0.50mm, IPC Low Density)
footprint RESC1005X40X25NL05T10 (Chip Resistor, 2-Leads, Body 1.00x0.50mm, IPC Medium Density)
footprint RESC1005X40X25LL05T10 (Chip Resistor, 2-Leads, Body 1.00x0.50mm, IPC High Density)
pins: 1, 2
1 alternate drawing of the same symbol

## CMP-2002-07613-1
designator R?, comment 330R
Thick Film Resistors - SMD General Purpose Chip Resistor 0402, 330 Ohms, 1%, 1/16W; Part Number: RC0402FR-07330RL; Manufacturer: Yageo / Phycomp; Supplier: Farnell; Supplier Part Number: RC0402FR-07330RL
footprint RESC1005X40X25LL05T10 (Chip Resistor, 2-Leads, Body 1.00x0.50mm, IPC High Density)
footprint RESC1005X40X25ML05T10 (Chip Resistor, 2-Leads, Body 1.00x0.50mm, IPC Low Density)
footprint RESC1005X40X25NL05T10 (Chip Resistor, 2-Leads, Body 1.00x0.50mm, IPC Medium Density)
pins: 1, 2
1 alternate drawing of the same symbol

## CMP-2002-07697-1
designator R?, comment 470R
Part Number: RC0402FR-07470RL; Manufacturer: Yageo / Phycomp
footprint RESC1005X40X25ML05T10 (Chip Resistor, 2-Leads, Body 1.00x0.50mm, IPC Low Density)
footprint RESC1005X40X25NL05T10 (Chip Resistor, 2-Leads, Body 1.00x0.50mm, IPC Medium Density)
footprint RESC1005X40X25LL05T10 (Chip Resistor, 2-Leads, Body 1.00x0.50mm, IPC High Density)
pins: 1, 2
1 alternate drawing of the same symbol

## CMP-2002-07701-1
designator R?, comment 47K
Part Number: RC0402FR-0747KL; Manufacturer: Yageo / Phycomp
footprint RESC1005X40X25ML05T10 (Chip Resistor, 2-Leads, Body 1.00x0.50mm, IPC Low Density)
footprint RESC1005X40X25LL05T10 (Chip Resistor, 2-Leads, Body 1.00x0.50mm, IPC High Density)
footprint RESC1005X40X25NL05T10 (Chip Resistor, 2-Leads, Body 1.00x0.50mm, IPC Medium Density)
pins: 1, 2
1 alternate drawing of the same symbol

## CMP-2002-07734-1
designator R?, comment 523k
RES 523K OHM 1% 1/16W 0402; Part Number: RC0402FR-07523KL; Manufacturer: Yageo / Phycomp
footprint RESC1005X40X25NL05T10 (Chip Resistor, 2-Leads, Body 1.00x0.50mm, IPC Medium Density)
footprint RESC1005X40X25ML05T10 (Chip Resistor, 2-Leads, Body 1.00x0.50mm, IPC Low Density)
footprint RESC1005X40X25LL05T10 (Chip Resistor, 2-Leads, Body 1.00x0.50mm, IPC High Density)
pins: 1, 2
1 alternate drawing of the same symbol

## CMP-2002-07822-1
designator R?, comment 84.5k
RES 84.5K OHM 1% 1/16W 0402; Manufacturer: Yageo / Phycomp; Part Number: RC0402FR-0784K5L
footprint RESC1005X40X25ML05T10 (Chip Resistor, 2-Leads, Body 1.00x0.50mm, IPC Low Density)
footprint RESC1005X40X25LL05T10 (Chip Resistor, 2-Leads, Body 1.00x0.50mm, IPC High Density)
footprint RESC1005X40X25NL05T10 (Chip Resistor, 2-Leads, Body 1.00x0.50mm, IPC Medium Density)
pins: 1, 2
1 alternate drawing of the same symbol

## CMP-2004-00521-1
designator R?, comment 36.5k
100mW Thick Film Resistors 75V ±1% ±100ppm/℃ 36.5kΩ 0603 Chip Resistor - Surface; Manufacturer: Vishay Dale; Part Number: CRCW020136K5FNED
footprint RESC0603X28X15ML05T05 (Chip Resistor, 2-Leads, Body 0.60x0.30mm, IPC Low Density)
footprint RESC0603X28X15NL05T05 (Chip Resistor, 2-Leads, Body 0.60x0.30mm, IPC Medium Density)
footprint RESC0603X28X15LL05T05 (Chip Resistor, 2-Leads, Body 0.60x0.30mm, IPC High Density)
pins: 1, 2
1 alternate drawing of the same symbol

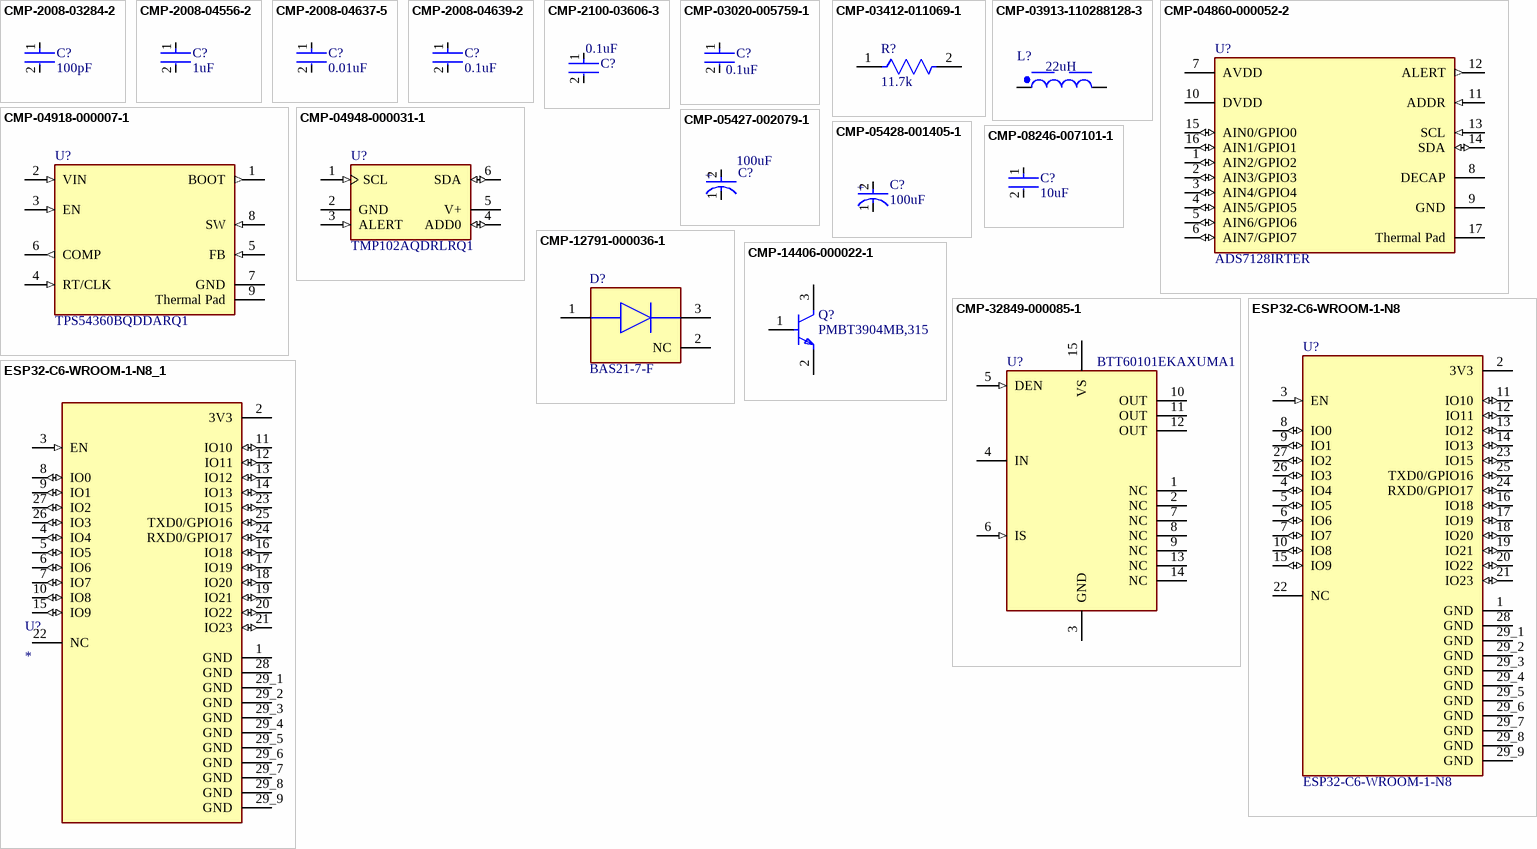
[diagram p1: symbols CMP-2008-03284-2 to ESP32-C6-WROOM-1-N8_1]

## CMP-2008-03284-2
designator C?, comment 100pF
CAP CER 100PF 50V C0G/NP0 0402; Manufacturer: Kemet; Manufacturer Part Number: C0402C101J5GACTU; Tolerance: 0.05; Temperature Characteristic: C0G; Temperature Coefficient: 15%; Material: Ceramic; Digikey Description: CAP CER 100PF 50V C0G/NP0 0402; Lead Free: Yes; Capacitance: 100 pF; Device Class L3: Ceramic Capacitors; Mouser Description: Multilayer Ceramic Capacitors MLCC - SMD/SMT 50volts 100pF C0G 5%; Octopart: https://octopart.com/c0402c101j5gactu-kemet-132471; Temperature Range Low: -55°C; Value: 100 pF; Automotive: No; Height: 0.55mm; Category: Cap; ComponentLink2URL: https://content.kemet.com/datasheets/KEM_C1002_X7R_SMD.pdf; RoHS: TRUE; Ipc Land Pattern Name: CAPC10050X50; Temperature Range High: +125°C; Device Class L2: Capacitors; Package: C0402-BB; ComponentLink2Description: Datasheet; Temperature: -55°C to +125°C; Voltage Rating: 50 V; Device Class L1: Passive Components
footprint FP-C0402-BB-MFG
footprint FP-C0402-BB-IPC_C
footprint FP-C0402-BB-IPC_B
footprint FP-C0402-BB-IPC_A
pins: 1, 2

## CMP-2008-04556-2
designator C?, comment 1uF
CAP CER 1UF 10V X5R 0402; Manufacturer Part Number: GRM155R61A105KE15D; Manufacturer: Murata; Material: Ceramic; Tolerance: 10%; Temperature Coefficient: 15%; Octopart: https://octopart.com/grm155r61a105ke15d-murata-197442; Lead Free: Yes; ComponentLink2Description: Datasheet; Temperature: -55°C to +85°C; Temperature Range High: +85°C; Height: 0.55mm; Capacitance: 1uF; Ipc Land Pattern Name: CAPC10050X50; ComponentLink2URL: https://search.murata.co.jp/Ceramy/image/img/A01X/G101/ENG/GRM155R61A105KE15-01A.pdf; Temperature Range Low: -55°C; Device Class L2: Capacitors; Voltage Rating: 10V; RoHS: TRUE; Device Class L1: Passive Components; Device Class L3: Ceramic Capacitors; Temperature Characteristic: X5R; Mouser Description: 0402 1 uF 10 V ±10% Tolerance X5R Surface Mount Multilayer Ceramic Capacitor; Automotive: No; Package: GRM15-0.1; Digikey Description: CAP CER 1UF 10V X5R 0402; Value: 1uF; Category: Cap
footprint FP-GRM15-0_1-MFG
footprint FP-GRM15-0_1-IPC_C
footprint FP-GRM15-0_1-IPC_B
footprint FP-GRM15-0_1-IPC_A
pins: 1, 2

## CMP-2008-04637-5
designator C?, comment 0.01uF
Chip Multilayer Ceramic Capacitors for General Purpose, 0402, 10000pF, X7R, 15%, 10%, 50V; Voltage: 25V; Capacitance: 10nF; Tolerance: 10%; Mount: Surface Mount; Lead Free: Lead Free; Radiation Hardening: No; Case Code (Imperial): 0402; REACH SVHC: No SVHC; Case/Package: 0402; Dielectric: X7R; Voltage Rating (DC): 50V; Max Operating Temperature: 125°C; Termination: SMD/SMT; Material: Ceramic; Width: 0.02inch; Package Quantity: 1; Voltage Rating: 50V; Thickness: 0.022inch; Packaging: Tape and Reel; Height: 0.5mm; Number of Pins: 2; Case Code (Metric): 1005; Min Operating Temperature: -55°C; Length: 1mm; Depth: 0.5mm
footprint FP-GRM155-0_05-IPC_C
footprint FP-GRM155-0_05-IPC_A
footprint FP-GRM155-0_05-IPC_B
footprint FP-GRM155-0_05-MFG
pins: 1, 2

## CMP-2008-04639-2
designator C?, comment 0.1uF
Chip Multilayer Ceramic Capacitors for General Purpose, 0402, 0.10uF, X7R, 15%, 10%, 50V; Dissipation Factor: 0.025%; Capacitance: 100nF; Weight: 0.000212oz; Thickness: 0.022inch; Voltage Rating (DC): 50V; Dielectric Material: Ceramic; Termination: SMD/SMT; Case/Package: 0402; Case Code (Imperial): 0402; Mount: Surface Mount; REACH SVHC: No SVHC; Resistor Type: Ceramic; Dielectric: X7R; Max Operating Temperature: 125°C; Voltage: 50V; Lead Free: Lead Free; Package Quantity: 10000; Packaging: Tape and Reel; Length: 1mm; Material: Ceramic; Height: 0.5mm; Depth: 0.5mm; Width: 0.5mm; Min Operating Temperature: -55°C; Tolerance: 10%; Case Code (Metric): 1005; Voltage Rating: 50V
footprint FP-GRM155-0_05-IPC_B
footprint FP-GRM155-0_05-IPC_A
footprint FP-GRM155-0_05-IPC_C
footprint FP-GRM155-0_05-MFG
pins: 1, 2

## CMP-2100-03606-3
designator C?, comment 0.1uF
CAP CER 0.1UF 50V X7R 0805; Manufacturer Part Number: CC0805KRX7R9BB104; Manufacturer: Yageo; Tolerance: 0.1; Capacitance: 100 nF; Value: 100 nF; Material: Ceramic; Device Class L1: Passive Components; ComponentLink2Description: Datasheet; Package: CC0805-0.85; Digikey Description: CAP CER 0.1UF 50V X7R 0805; Device Class L3: Ceramic Capacitors; Temperature: -30°C to +85°C; Temperature Characteristic: X7R; Voltage Rating: 50 V; Height: 0.95mm; RoHS: TRUE; Ipc Land Pattern Name: CAPC200125X85; Device Class L2: Capacitors; Category: Cap; Temperature Range Low: -30°C; Temperature Range High: +85°C; Mouser Description: Multilayer Ceramic Capacitors MLCC - SMD/SMT 100nF 50V X7R 10%; Footprint Url: http://www.yageo.com/exep/pages/download/literatures/UPY-C_GEN_24.pdf; Automotive: No; Octopart: https://octopart.com/cc0805krx7r9bb104-yageo-192993; Lead Free: Yes; ComponentLink2URL: http://www.yageo.com/documents/recent/UPY-GPHC_Y5V_6.3V-to-50V_8.pdf
footprint FP-CC0805-0_85-MFG
footprint FP-CC0805-0_85-IPC_C
footprint FP-CC0805-0_85-IPC_B
footprint FP-CC0805-0_85-IPC_A
pins: 1, 2

## CMP-03020-005759-1
designator C?, comment 0.1uF
CAP CER 0.1UF 50V X7R 1206; Manufacturer: KEMET; Manufacturer Part Number: C1206C104K5RACAUTO; Capacitance: 0.10 μF; Temperature Coefficient: 15%; Value: 0.10 μF; Material: Ceramic; Automotive Grade: Grade 0; Tolerance: 0.1; RoHS: TRUE; Lead Free: Yes; ComponentLink2Description: Datasheet; Automotive: Yes; Temperature Characteristic: X7R; Temperature Range Low: -55°C; Voltage Rating: 50 V; Device Class L1: Passive Components; Ipc Land Pattern Name: CAPC320160X78; Mouser Description: Multilayer Ceramic Capacitors MLCC - SMD/SMT 0.1uF 50volts 10% X7R AUTO; Octopart: https://octopart.com/c1206c104k5racauto-kemet-12595586; Device Class L3: Ceramic Capacitors; Digikey Description: CAP CER 0.1UF 50V X7R 1206; Temperature Range High: +150°C; Temperature: -55°C to +150°C; Device Class L2: Capacitors; ComponentLink2URL: https://content.kemet.com/datasheets/KEM_C1007_X8R_ULTRA_150C_SMD.pdf; Package: C1206C-EB; Category: Cap; Height: 0.88mm
footprint FP-C1206C-EB-MFG
footprint FP-C1206C-EB-IPC_C
footprint FP-C1206C-EB-IPC_B
footprint FP-C1206C-EB-IPC_A
pins: 1, 2

## CMP-03412-011069-1
designator R?, comment 11.7k
RES 11.7K OHM 0.1% 1/8W 0805; Manufacturer: Yageo; Manufacturer Part Number: RT0805BRD0711K7L; Resistance: 11.7kΩ; Voltage Rating: 150V; Value: 11.7kΩ; Temperature Coefficient: 25ppm/°C; Power Rating: 0.125W; RoHS: TRUE; Composition: Thin Film; Height: 0.6mm; Automotive: No; Tolerance: 0.1%; Package: RT0805; Device Class L2: Resistors; Footprint Url: http://www.yageo.com/exep/pages/download/literatures/PYu-R_Mount_10.pdf; ComponentLink2Description: Datasheet; Device Class L1: Passive Components; Temperature Range High: +155°C; Device Class L3: Chip SMD Resistors; Temperature Range Low: -55°C; Lead Free: Yes; ComponentLink2URL: http://www.yageo.com/documents/recent/PYu-RT_1-to-0.01_RoHS_L_9.pdf; Octopart: https://octopart.com/rt0805brd0711k7l-yageo-78404094; Ipc Land Pattern Name: RESC200125X50; Series: RT; Mouser Description: High Precision-High Stability Chip Resistor Thin Film 0805 11.7kOhm 0.1% Paper T/R; Temperature: -55°C to +155°C; Category: Res; Digikey Description: RES 11.7K OHM 0.1% 1/8W 0805
footprint FP-RT0805-MFG
footprint FP-RT0805-IPC_C
footprint FP-RT0805-IPC_B
footprint FP-RT0805-IPC_A
pins: 1, 2

## CMP-03913-110288128-3
designator L?, comment 22uH
Inductor, 22Uh, Unshielded, 3A, Rad Rohs Compliant: Yes; Inductance: 22µH; Voltage Rating: 80V; DC Resistance (DCR): 46mΩ; Ambient Temperature Range High: 85°C; Ambient Temperature Range Low: -40°C; Current Rating: 3A; RoHS: Compliant; Max Operating Temperature: 125°C; Min Operating Temperature: -40°C; Length: 7.8mm; Width: 7.8mm; Height: 9.5mm
footprint WE-TI_8095 (Inductor, 1Uh, Unshielded, 6.9A, Rad Rohs Compliant: Yes)
pins: 1, 2

## CMP-04860-000052-2
designator U?, comment ADS7128IRTER
IC ADC 12BIT SAR 16WQFN; Manufacturer Lifecycle Status: ACTIVE; NexarPartId: 103121062; Max Supply Voltage: 5.5V; Number of Converters: 1; Min Supply Voltage: 1.65V; Interface: I2C; Max Junction Temperature (Tj): 125°C; Number of Channels: 8; Height: 800µm; Lifecycle Status: Production; Width: 3mm; Thickness: 750µm; Min Operating Temperature: -40°C; Number of Pins: 16; Ambient Temperature Range High: 85°C; Max Operating Temperature: 85°C; Length: 3mm
footprint FP-RTE0016C-MFG (Two-channel, 12-bit, VOUT and IOUT smart DAC with I²C and SPI and Hi-Z out during power off 16-WQFN -40 to 125)
footprint FP-RTE0016C-IPC_A (Two-channel, 12-bit, VOUT and IOUT smart DAC with I²C and SPI and Hi-Z out during power off 16-WQFN -40 to 125)
footprint FP-RTE0016C-IPC_B (Two-channel, 12-bit, VOUT and IOUT smart DAC with I²C and SPI and Hi-Z out during power off 16-WQFN -40 to 125)
footprint FP-RTE0016C-IPC_C (Two-channel, 12-bit, VOUT and IOUT smart DAC with I²C and SPI and Hi-Z out during power off 16-WQFN -40 to 125)
pins: 1 AIN2/GPIO2 (io), 2 AIN3/GPIO3 (io), 3 AIN4/GPIO4 (io), 4 AIN5/GPIO5 (io), 5 AIN6/GPIO6 (io), 6 AIN7/GPIO7 (io), 7 AVDD (power), 8 DECAP (power), 9 GND (power), 10 DVDD (power), 11 ADDR (in), 12 ALERT (out), 13 SCL (in), 14 SDA (io), 15 AIN0/GPIO0 (io), 16 AIN1/GPIO1 (io), 17 Thermal Pad (power)

## CMP-04918-000007-1
designator U?, comment TPS54360BQDDARQ1
IC REG BCK SPLIT RAIL ADJ 8SOPWR; Manufacturer: Texas Instruments; Switching Topology: Buck; Max Junction Temp: +150°C; Max Supply Voltage: 60V; Number Of Outputs: 1; Min Supply Voltage: 4.5V; Output Voltage: 0.8-58.8V; Output Type: AdjustableProgrammable; Output Current: 3.5A; Max Duty Cycle: 98%; Nominal Supply Current: 146uA; Automotive Grade: Grade 1; Switching Frequency: 100-2500kHz; Standoff Height: 0mm; Automotive: Yes; RoHS: TRUE; Category: IC; Temperature Range Low: -40°C; Ambient Temperature Range Low: -40°C; Digikey Description: IC REG BCK SPLIT RAIL ADJ 8SOPWR; Lead Free: Yes; Device Class L3: Voltage Regulators - Switching; Octopart: https://octopart.com/tps54360bqddarq1-texas+instruments-80336296; ComponentLink2URL: http://www.ti.com/lit/ds/symlink/tps54360b-q1.pdf; Temperature Range High: +125°C; Temperature: -40°C to +125°C; Ambient Temperature Range High: +125°C; Device Class L2: Power Management ICs; Device Class L1: Integrated Circuits (ICs); Package: DDA0008E; Height: 1.7mm; Manufacturer Part Number: TPS54360BQDDARQ1; ComponentLink2Description: Datasheet
footprint FP-DDA0008E-MFG
footprint FP-DDA0008E-IPC_C
footprint FP-DDA0008E-IPC_B
footprint FP-DDA0008E-IPC_A
pins: 1 BOOT (out), 2 VIN (in), 3 EN (in), 4 RT/CLK (in), 5 FB (in), 6 COMP (out), 7 GND (power), 8 SW (in), 9 Thermal Pad (power)

## CMP-04948-000031-1
designator U?, comment TMP102AQDRLRQ1
SENSOR DIGITAL -40C-125C 6SOT; Output Type: I2C; Operating Supply Voltage: 3.6V; Quiescent Current: 10uA; Resolution: 11b; Mount: Surface Mount; Max Operating Temperature: 125°C; Case/Package: SOT-563; Lead Free: Lead Free; Min Operating Temperature: -40°C; Packaging: Tape and Reel; Interface: I2C; Number of Pins: 6; RoHS Compliant: Yes
footprint FP-DRL0006A-MFG
pins: 1 SCL (in), 2 GND (power), 3 ALERT (in), 4 ADD0 (io), 5 V+, 6 SDA (io)

## CMP-05427-002079-1
designator C?, comment 100uF
Aluminum Electrolytic Capacitors (Radial Lead Type) 100uF ±20% 50V; ESR (Equivalent Series Resistance): 61mR; Lead Diameter: 0.6mm; Ripple Current (AC): 870mA; Life (Hours): 6000Hour; Lead/Base Style: Straight; Height - Seated (Max): 0.512inch; Height: 11.5mm; REACH SVHC: No SVHC; Contact Plating: Tin; Impedance: 61mR; Capacitance: 100uF; Voltage: 50V; Termination: Radial; Series: FR; Voltage Rating: 50V; Lead Pitch: 3.5mm; Diameter: 8mm; Number of Pins: 2; Min Operating Temperature: -40°C; Mount: Through Hole; Ripple Current: 870mA; Radiation Hardening: No; Length: 11.5mm; Max Operating Temperature: 105°C; Construction: RADIAL; Packaging: Bulk; Package Quantity: 200; Case/Package: Radial; RoHS Compliant: Yes; Voltage Rating (DC): 50V; Tolerance: 20%
footprint FP-RAD-TH-D_8_0_5-L_11_5-MFG
pins: 1 C, 2 A
text: +

## CMP-05428-001405-1
designator C?, comment 100uF
Molded Tantalum Polymer Capacitor 100uF 20% 6.3V life 2000Hours SMD 2917; ESR (Equivalent Series Resistance): 18mR; Polarity: Polar; Ripple Current: 2.8A; Leakage Current: 63uA; Dissipation Factor: 10%; Width: 4.3mm; Tolerance: 20%; Material: Polymer; Case/Package: 2917; Voltage Rating (DC): 6.3V; Capacitance: 100uF; Case Code (Metric): 7343; Features: General Purpose; Package Quantity: 3000; Voltage: 6.3V; Lead Free: Lead Free; Voltage Rating: 6.3V; Length: 7.3mm; Construction: Flat; RoHS Compliant: Yes; Height - Seated (Max): 0.079inch; Series: POSCAP™ TPE; Radiation Hardening: No; Case Code (Imperial): 2917; REACH SVHC: No SVHC; Max Operating Temperature: 105°C; Mount: Surface Mount; Depth: 4.3mm; Height: 1.8mm; Min Operating Temperature: -55°C; Packaging: Tape and Reel; Termination: SMD/SMT
footprint FP-POSCAP-D2E-MFG
pins: 1 C, 2 A
text: +

## CMP-08246-007101-1
designator C?, comment 10uF
Multilayer Ceramic Capacitors 10uF ±10% 50V X7R SMD 1210; RoHS Compliant: Yes
footprint FP-C3225-250-0_4-IPC_A
footprint FP-C3225-250-0_4-MFG
footprint FP-C3225-250-0_4-IPC_C
footprint FP-C3225-250-0_4-IPC_B
pins: 1, 2